# EAGLE library part HEADER-0.1IN-13POS (library Components)
13 pin single inline pin header, socket, or connector
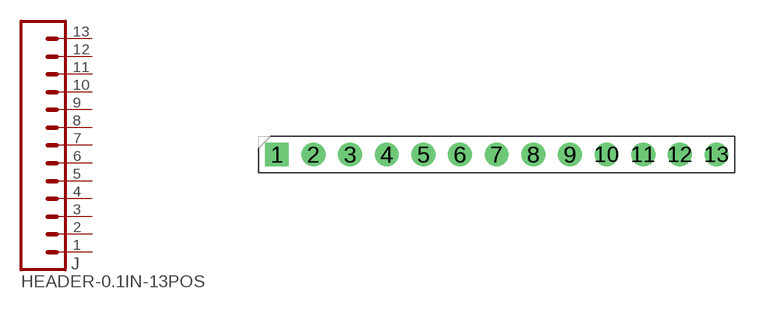
[diagram p3: symbol with the pads of HDRV13W63P254_13X1_3302X254H838_HS; footprint HDRV13W63P254_13X1_3302X254H838_HS]

Designator prefix J

## HEADER-0.1IN-13POSTH-254X13  [HDRV13W63P254_13X1_3302X254H838_HS]
1  1  pas
2  2  pas
3  3  pas
4  4  pas
5  5  pas
6  6  pas
7  7  pas
8  8  pas
9  9  pas
10  10  pas
11  11  pas
12  12  pas
13  13  pas

## Footprint HDRV13W63P254_13X1_3302X254H838_HS (pad centres in mm)
Header, Vertical, 2.54 mm pitch; 0.635 mm lead width, 13 pins, 1 row, 13 pins per row, 33.02 mm L X 2.54 mm W X 8.38 mm H body PCB Libraries Packages
drill 1.1 pad 1.65 square: 1 0,0
drill 1.1 pad 1.65: 2 2.54,0; 3 5.08,0; 4 7.62,0; 5 10.16,0; 6 12.7,0; 7 15.24,0; 8 17.78,0; 9 20.32,0; 10 22.86,0; 11 25.4,0; 12 27.94,0; 13 30.48,0